# EAGLE library part MEGA2560-PRO-MIT-ISP (library mega2560-pro-mini)
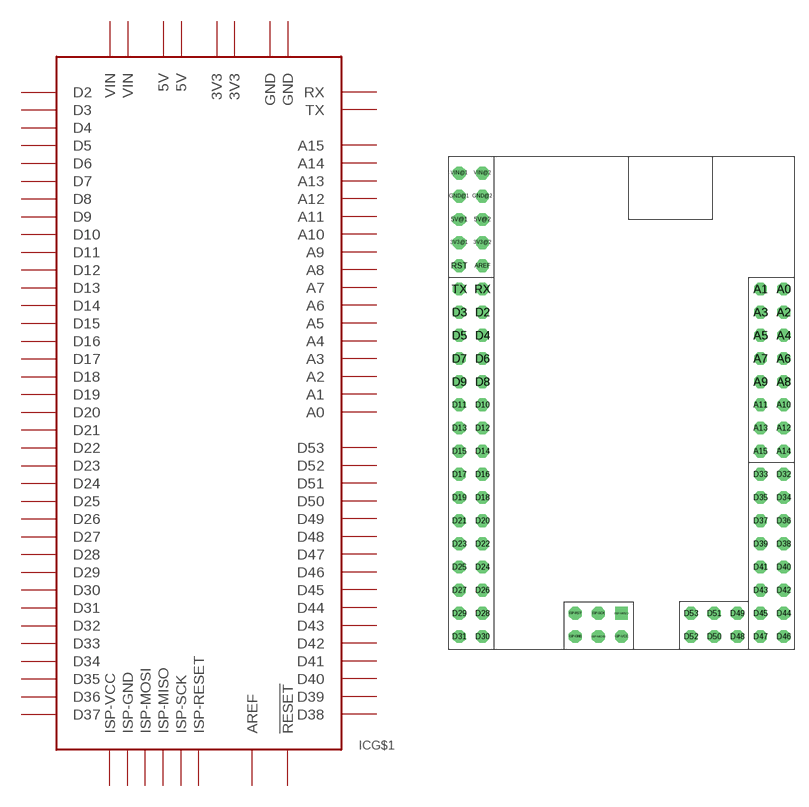
[diagram p1: symbol with the pads of MEGA2560-PRO-ISP; footprint MEGA2560-PRO-ISP]

Designator prefix IC; gates G$1=MEGA2560-PRO G$2=ISP-PINS

## MEGA2560-PRO-MIT-ISP  [MEGA2560-PRO-ISP]
3V3@1  G$1:3V3  pwr
3V3@2  G$1:3V3  pwr
5V@1  G$1:5V  pwr
5V@2  G$1:5V  pwr
A0  G$1:A0
A1  G$1:A1
A2  G$1:A2
A3  G$1:A3
A4  G$1:A4
A5  G$1:A5
A6  G$1:A6
A7  G$1:A7
A8  G$1:A8
A9  G$1:A9
A10  G$1:A10
A11  G$1:A11
A12  G$1:A12
A13  G$1:A13
A14  G$1:A14
A15  G$1:A15
AREF  G$1:AREF
D2  G$1:D2
D3  G$1:D3
D4  G$1:D4
D5  G$1:D5
D6  G$1:D6
D7  G$1:D7
D8  G$1:D8
D9  G$1:D9
D10  G$1:D10
D11  G$1:D11
D12  G$1:D12
D13  G$1:D13
D14  G$1:D14
D15  G$1:D15
D16  G$1:D16
D17  G$1:D17
D18  G$1:D18
D19  G$1:D19
D20  G$1:D20
D21  G$1:D21
D22  G$1:D22
D23  G$1:D23
D24  G$1:D24
D25  G$1:D25
D26  G$1:D26
D27  G$1:D27
D28  G$1:D28
D29  G$1:D29
D30  G$1:D30
D31  G$1:D31
D32  G$1:D32
D33  G$1:D33
D34  G$1:D34
D35  G$1:D35
D36  G$1:D36
D37  G$1:D37
D38  G$1:D38
D39  G$1:D39
D40  G$1:D40
D41  G$1:D41
D42  G$1:D42
D43  G$1:D43
D44  G$1:D44
D45  G$1:D45
D46  G$1:D46
D47  G$1:D47
D48  G$1:D48
D49  G$1:D49
D50  G$1:D50
D51  G$1:D51
D52  G$1:D52
D53  G$1:D53
GND@1  G$1:GND  pwr
GND@2  G$1:GND  pwr
ISP-GND  G$2:ISP-GND
ISP-MISO  G$2:ISP-MISO
ISP-MOSI  G$2:ISP-MOSI
ISP-RST  G$2:ISP-RESET
ISP-SCK  G$2:ISP-SCK
ISP-VCC  G$2:ISP-VCC
RST  G$1:!RESET
RX  G$1:RX
TX  G$1:TX
VIN@1  G$1:VIN  pwr
VIN@2  G$1:VIN  pwr

## Footprint MEGA2560-PRO-ISP (pad centres in mm)
Mega 2560 Pro Mini Info: https://robotdyn.com/mega-2560-pro-embed-ch340g-atmega2560-16au-with-out-pinheaders.html
drill 0.9 octagon: 3V3@1 1.27,44.45; 3V3@2 3.81,44.45; 5V@1 1.27,46.99; 5V@2 3.81,46.99; A0 36.83,39.37; A1 34.29,39.37; A2 36.83,36.83; A3 34.29,36.83; A4 36.83,34.29; A5 34.29,34.29; A6 36.83,31.75; A7 34.29,31.75; A8 36.83,29.21; A9 34.29,29.21; A10 36.83,26.67; A11 34.29,26.67; A12 36.83,24.13; A13 34.29,24.13; A14 36.83,21.59; A15 34.29,21.59; AREF 3.81,41.91; D2 3.81,36.83; D3 1.27,36.83; D4 3.81,34.29; D5 1.27,34.29; D6 3.81,31.75; D7 1.27,31.75; D8 3.81,29.21; D9 1.27,29.21; D10 3.81,26.67; D11 1.27,26.67; D12 3.81,24.13; D13 1.27,24.13; D14 3.81,21.59; D15 1.27,21.59; D16 3.81,19.05; D17 1.27,19.05; D18 3.81,16.51; D19 1.27,16.51; D20 3.81,13.97; D21 1.27,13.97; D22 3.81,11.43; D23 1.27,11.43; D24 3.81,8.89; D25 1.27,8.89; D26 3.81,6.35; D27 1.27,6.35; D28 3.81,3.81; D29 1.27,3.81; D30 3.81,1.27; D31 1.27,1.27; D32 36.83,19.05; D33 34.29,19.05; D34 36.83,16.51; D35 34.29,16.51; D36 36.83,13.97; D37 34.29,13.97; D38 36.83,11.43; D39 34.29,11.43; D40 36.83,8.89; D41 34.29,8.89; D42 36.83,6.35; D43 34.29,6.35; D44 36.83,3.81; D45 34.29,3.81; D46 36.83,1.27; D47 34.29,1.27; D48 31.75,1.27; D49 31.75,3.81; D50 29.21,1.27; D51 29.21,3.81; D52 26.67,1.27; D53 26.67,3.81; GND@1 1.27,49.53; GND@2 3.81,49.53; ISP-GND 13.97,1.27; ISP-MOSI 16.51,1.27; ISP-RST 13.97,3.81; ISP-SCK 16.51,3.81; ISP-VCC 19.05,1.27; RST 1.27,41.91; RX 3.81,39.37; TX 1.27,39.37; VIN@1 1.27,52.07; VIN@2 3.81,52.07
drill 0.9 square: ISP-MISO 19.05,3.81